# Altium schematic symbol library NetTie.Schlib: 1 symbol
Pins are listed as number, name and electrical type; pins without a type are passive.

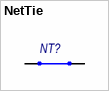
[diagram p0: symbol NetTie]

## NetTie
designator NT?, comment OSM R1-8  (value not drawn)  (net tie, no BOM)
Different Nets connection; Наименование: NetTie; Потребление, Вт: 0,001; Value: 0; Назначение: NetTie
footprint NetTie_1mm
pins: 1, 2